# EAGLE library part MEGA64A (library avrs)
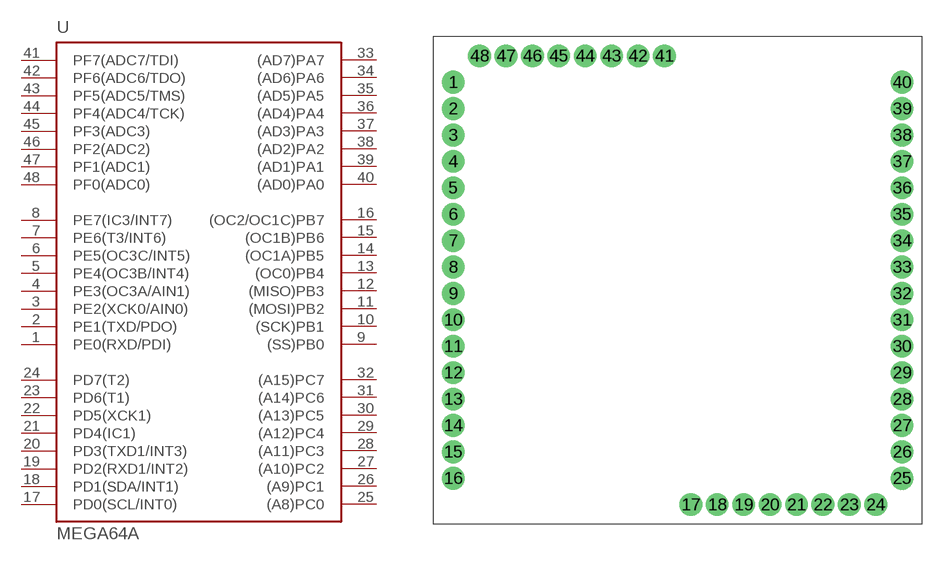
[diagram p6: symbol with the pads of MEGA64A; footprint MEGA64A]

Designator prefix -

## MEGA64A  [MEGA64A]
1  PE0(RXD/PDI)
2  PE1(TXD/PDO)
3  PE2(XCK0/AIN0)
4  PE3(OC3A/AIN1)
5  PE4(OC3B/INT4)
6  PE5(OC3C/INT5)
7  PE6(T3/INT6)
8  PE7(IC3/INT7)
9  (SS)PB0
10  (SCK)PB1
11  (MOSI)PB2
12  (MISO)PB3
13  (OC0)PB4
14  (OC1A)PB5
15  (OC1B)PB6
16  (OC2/OC1C)PB7
17  PD0(SCL/INT0)
18  PD1(SDA/INT1)
19  PD2(RXD1/INT2)
20  PD3(TXD1/INT3)
21  PD4(IC1)
22  PD5(XCK1)
23  PD6(T1)
24  PD7(T2)
25  (A8)PC0  out
26  (A9)PC1  out
27  (A10)PC2  out
28  (A11)PC3  out
29  (A12)PC4  out
30  (A13)PC5  out
31  (A14)PC6  out
32  (A15)PC7  out
33  (AD7)PA7
34  (AD6)PA6
35  (AD5)PA5
36  (AD4)PA4
37  (AD3)PA3
38  (AD2)PA2
39  (AD1)PA1
40  (AD0)PA0
41  PF7(ADC7/TDI)  in
42  PF6(ADC6/TDO)  in
43  PF5(ADC5/TMS)  in
44  PF4(ADC4/TCK)  in
45  PF3(ADC3)  in
46  PF2(ADC2)  in
47  PF1(ADC1)  in
48  PF0(ADC0)  in

## Footprint MEGA64A (pad centres in mm)
drill 1 pad 2.184: 1 -21.59,19.05; 2 -21.59,16.51; 3 -21.59,13.97; 4 -21.59,11.43; 5 -21.59,8.89; 6 -21.59,6.35; 7 -21.59,3.81; 8 -21.59,1.27; 9 -21.59,-1.27; 10 -21.59,-3.81; 11 -21.59,-6.35; 12 -21.59,-8.89; 13 -21.59,-11.43; 14 -21.59,-13.97; 15 -21.59,-16.51; 16 -21.59,-19.05; 17 1.27,-21.59; 18 3.81,-21.59; 19 6.35,-21.59; 20 8.89,-21.59; 21 11.43,-21.59; 22 13.97,-21.59; 23 16.51,-21.59; 24 19.05,-21.59; 25 21.59,-19.05; 26 21.59,-16.51; 27 21.59,-13.97; 28 21.59,-11.43; 29 21.59,-8.89; 30 21.59,-6.35; 31 21.59,-3.81; 32 21.59,-1.27; 33 21.59,1.27; 34 21.59,3.81; 35 21.59,6.35; 36 21.59,8.89; 37 21.59,11.43; 38 21.59,13.97; 39 21.59,16.51; 40 21.59,19.05; 41 -1.27,21.59; 42 -3.81,21.59; 43 -6.35,21.59; 44 -8.89,21.59; 45 -11.43,21.59; 46 -13.97,21.59; 47 -16.51,21.59; 48 -19.05,21.59